# Altium footprint library Diode.PcbLib: 24 footprints (part 2 of 2)
Each footprint in its own frame and in the unit in brackets; x right, y up, seen from the top. Pads: shape width x height; smd on the part's side, far side on the other; paste and mask are expansions set on the pad; w line width, h text height; cw(c..) or ccw(c..) is an arc to the next point about the centre after c.
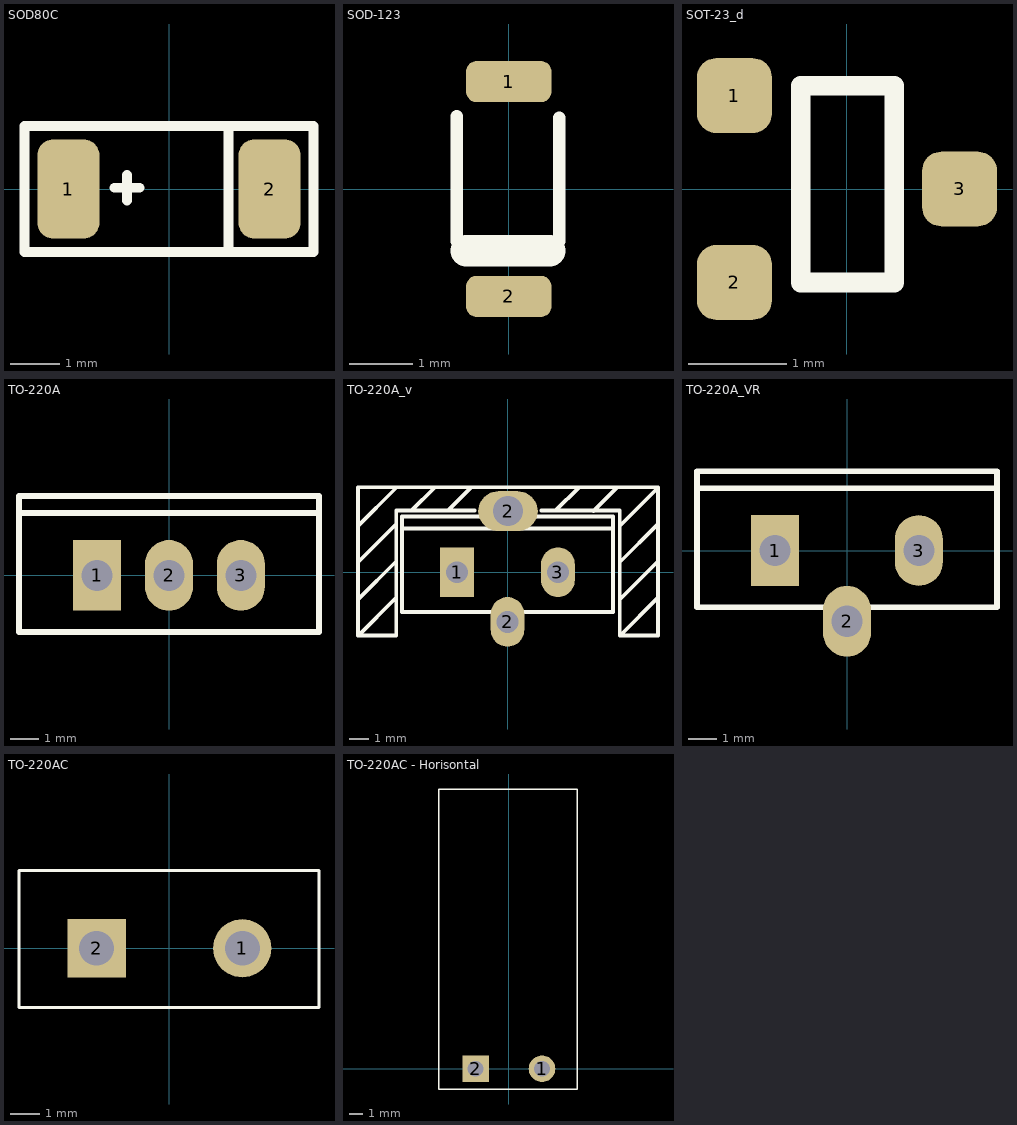
[diagram p1: the footprints below, top view; thin cyan lines are the x and y axes]

## SOD80C [mm]
height 1
pads (2):
  rrect50% 1.25x2 smd: 1(-2.032,0) 2(2.032,0)
Top Overlay:
  lines w0.2: -1.102,0.025 -0.594,0.025 ; -0.852,-0.229 -0.852,0.279 ; 1.206,-1.27 1.206,1.27 ; -2.921,-1.27 2.921,-1.27 2.921,1.27 -2.921,1.27 -2.921,-1.27
3D body: height 1.6, standoff 0, extent -1.894,-0.8 1.806,0.8

## SOD-123 [mm]
pads (2):
  rrect50% 1.35x0.65 smd: 1(0,1.7) 2(0,-1.7)
Top Overlay:
  lines w0.2: -0.825,1.15 -0.825,-0.825 -0.675,-0.975 ; 0.65,-0.975 0.8,-0.825 0.8,1.125
  lines w0.5: -0.675,-0.975 0.65,-0.975
3D body: height 1.27, standoff 0, extent -0.8,-1.85 0.8,1.85

## SOT-23_d [mm]
pads (3):
  rrect50% 0.76x0.76 smd: 1(-1.145,0.95) 2(-1.145,-0.95) 3(1.145,0)
Top Overlay:
  lines w0.2: -0.47,-0.95 -0.47,1.05 0.48,1.05 0.48,-0.95 -0.47,-0.95
3D body: height 1.08, standoff 0, extent -1.365,-1.525 1.275,1.475

## TO-220A [mm] "TO, Thru-Hole, Vertical, Heatsink Mounted; 3 In-Line Leads; Pitch 2.54 mm"
height 19.7
pads (3):
  rect 1.7x2.5 hole 1.1: 1(-2.54,0)
  oval 1.7x2.5 hole 1.1: 2(0,0) 3(2.54,0)
Top Overlay:
  lines w0.2: -5.3,2.2 5.3,2.2 ; -5.3,-2 -5.3,2.8 5.3,2.8 5.3,-2 -5.3,-2
3D body: height 22.8, standoff -5.98, extent -4.95,-2 4.95,2.5

## TO-220A_v [mm] "TO, Thru-Hole, Vertical, Heatsink Mounted; 3 In-Line Leads; Pitch 2.54 mm"
height 19.7
pads (4):
  rect 1.7x2.5 hole 1.1: 1(-2.54,0)
  oval 1.7x2.5 hole 1.1: 2(0,-2.5) 3(2.54,0)
  oval 3x2 hole 1.5: 2(0.025,3.075)
Top Overlay:
  lines w0.2: -7.525,0.5 -5.625,2.4 ; -7.525,2.325 -5.625,4.225 ; -7.5,-1.35 -5.6,0.55 ; -5.6,-1.275 -7.5,-3.175 -7.525,-3.175 ; -5.3,2.2 5.3,2.2 ; -4.825,3.1 -3.687,4.237 ; -3,3.1 -1.837,4.263 ; -1.65,3.1 -5.6,3.1 -5.6,-3.175 -7.525,-3.175 ; 1.7,3.1 5.65,3.1 5.65,-3.175 7.575,-3.175 7.575,4.275 -7.525,4.275 -7.525,-3.175 ; 2.425,3.1 3.588,4.263 ; 4.325,3.075 5.488,4.238 ; 5.65,0.5 7.55,2.4 ; 5.65,2.325 7.55,4.225 ; 5.675,-3.175 7.575,-1.275 ; 5.675,-1.35 7.575,0.55 ; -5.3,-2 -5.3,2.8 5.3,2.8 5.3,-2 -5.3,-2
3D body: height 21.21, standoff -5.95, extent -5.2,-2.9 5.2,2.841
3D body: height 24.52, standoff 5.48, extent -7.366,-3.075 7.516,4.111

## TO-220A_VR [mm] "TO, Thru-Hole, Vertical, Heatsink Mounted; 3 In-Line Leads; Pitch 2.54 mm"
height 19.7
pads (3):
  rect 1.7x2.5 hole 1.1: 1(-2.54,0)
  oval 1.7x2.5 hole 1.1: 2(0,-2.5) 3(2.54,0)
Top Overlay:
  lines w0.2: -5.3,2.2 5.3,2.2 ; -5.3,-2 -5.3,2.8 5.3,2.8 5.3,-2 -5.3,-2
3D body: height 21.21, standoff -5.95, extent -5.2,-2.9 5.2,2.841

## TO-220AC [mm] "Diode"
height 4.6
pads (2):
  round 2 hole 1.2: 1(2.5,0)
  rect 2x2 hole 1.2: 2(-2.5,0)
Top Overlay:
  lines w0.1: -5.167,-2.032 -5.167,2.667 5.133,2.667 5.133,-2.032 -5.167,-2.032
3D body: height 20.5, standoff -1.7, extent -5,-1.95 5,2.55

## TO-220AC - Horisontal [mm] "Diode"
height 4.6
pads (2):
  round 2 hole 1.2: 1(2.5,0)
  rect 2x2 hole 1.2: 2(-2.5,0)
Top Overlay:
  lines w0.1: -5.275,-1.524 5.15,-1.524 5.15,21.075 -5.275,21.075 -5.275,-1.524
3D body: height 4.2, standoff -1.65, extent -5.16,-0.318 5,21.018